# EAGLE library part PAM8302A (library esbd-chips)
PAM8302A Diodes Incorporated 2.5W Filterless Class-D Mono Audio Amplifier
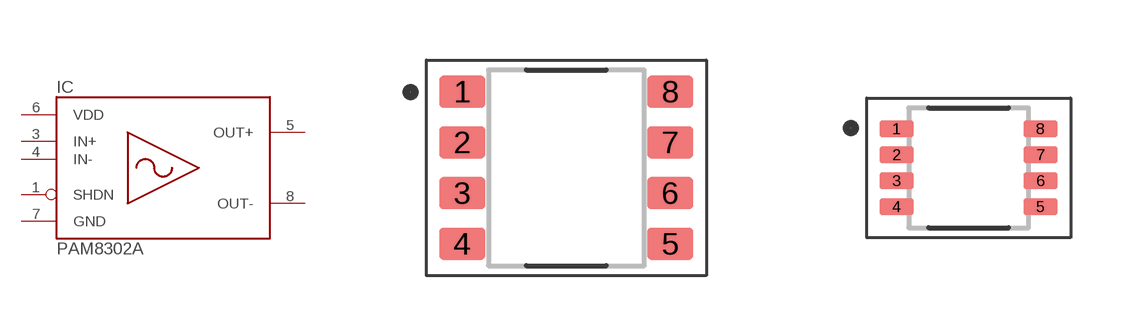
[diagram p11: symbol with the pads of SOIC8_3.90X4.90MM; footprints SOIC8_3.90X4.90MM, SOP8_3.00X3.00MM]

Designator prefix IC

## PAM8302AADCR  [SOIC8_3.90X4.90MM]
1  SHDN  in
3  IN+  in
4  IN-  in
5  OUT+  out
6  VDD  pwr
7  GND  pwr
8  OUT-  out

## PAM8302AASCR  [SOP8_3.00X3.00MM]
Pads as for SOIC8_3.90X4.90MM

## Footprint SOIC8_3.90X4.90MM (pad centres in mm)
https://www.analog.com/media/en/package-pcb-resources/package/pkg_pdf/ltc-legacy-soic/05081610_G_SO8.pdf
smd 1.15 x 0.8: 1 -2.6,1.905; 2 -2.6,0.635; 3 -2.6,-0.635; 4 -2.6,-1.905; 5 2.6,-1.905; 6 2.6,-0.635; 7 2.6,0.635; 8 2.6,1.905

## Footprint SOP8_3.00X3.00MM (pad centres in mm)
https://assets.nexperia.com/documents/package-information/SOT505-2.pdf
smd 0.85 x 0.4: 1 -1.8,0.975; 2 -1.8,0.325; 3 -1.8,-0.325; 4 -1.8,-0.975; 5 1.8,-0.975; 6 1.8,-0.325; 7 1.8,0.325; 8 1.8,0.975